# EAGLE library part LT1719CS8#PBF (library LT1719CS8#PBF)
LT1719CS8#PBF, Comparator 3 V, 5 V 8-Pin SOIC N Source: Datasheet <http://cds.linear.com/docs/en/datasheet/1719fa.pdf>
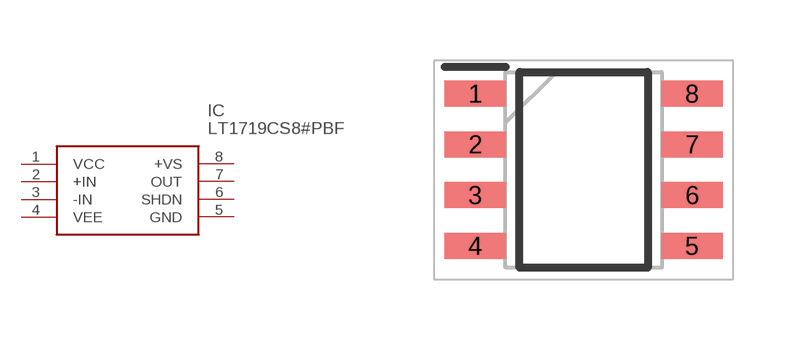
[diagram p0: symbol with the pads of SOIC127P599X175-8N; footprint SOIC127P599X175-8N]

Designator prefix IC

## LT1719CS8#PBF (Description: LT1719CS8#PBF, Comparator 3 V, 5 V 8-Pin SOIC N; Height: 1.752mm; Manufacturer_Name: Analog Devices; Manufacturer_Part_Number: LT1719CS8#PBF; Mouser_Part_Number: 584-LT1719CS8#PBF; Mouser_Price-Stock: https://www.mouser.co.uk/ProductDetail/Analog-Devices/LT1719CS8PBF?qs=ytflclh7QUVguooTyPJ7PQ%3D%3D)  [SOIC127P599X175-8N]
1  VCC
2  +IN
3  -IN
4  VEE
5  GND
6  SHDN
7  OUT
8  +VS

## Footprint SOIC127P599X175-8N (pad centres in mm)
8-LEAD PLASTIC SO
smd 1.526 x 0.65: 1 -2.712,1.905; 2 -2.712,0.635; 3 -2.712,-0.635; 4 -2.712,-1.905; 5 2.712,-1.905; 6 2.712,-0.635; 7 2.712,0.635; 8 2.712,1.905